# Altium schematic symbol library WL-SMCC.SchLib: 21 symbols
Pins are listed as number, name and electrical type; pins without a type are passive.

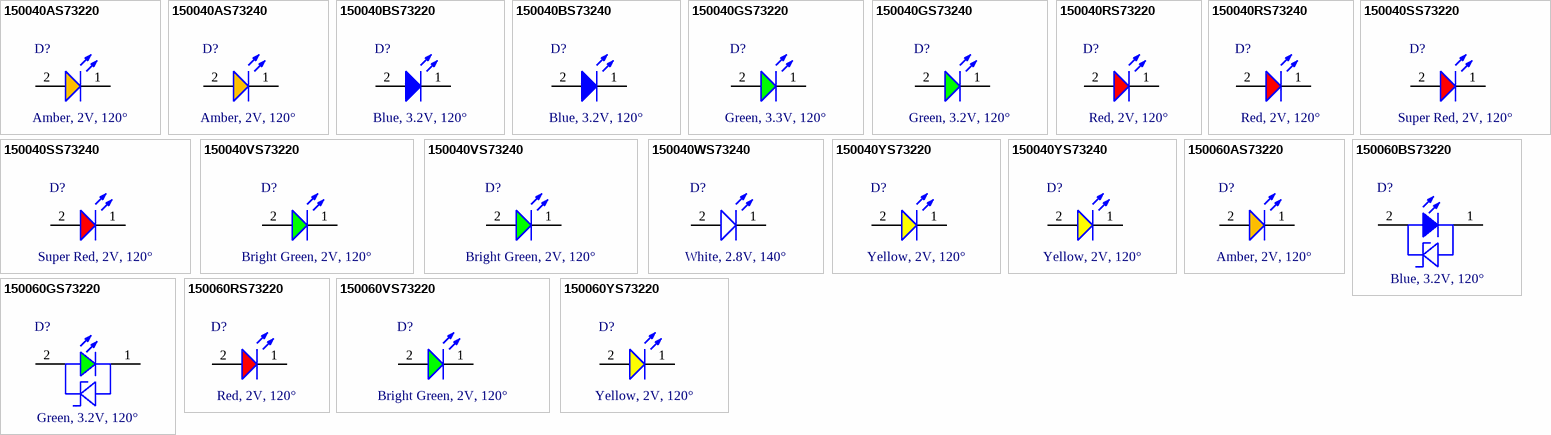
[diagram p0: symbols 150040AS73220 to 150060YS73220]

## 150040AS73220
designator D?, comment Amber, 2V, 120°
WL-SMCC Mono-color Chip LED Compact, SMT, size 0402, Amber, 2V, 120°; Manufacturer Part Number: 150040AS73220; Manufacturer: Wurth Elektronik; Case/Size Code: 0402; Chip Technology: AlInGaP; Dominant Wavelength: 605nm; Luminous Intensity: 80mcd; Peak Wavelength: 609nm; Category: Signal LEDs; Match Code: WL-SMCC; ComponentLink1Description: Website Link; ComponentLink1URL: https://www.we-online.com/redexpert/article/150040AS73220?ad; ComponentLink2Description: Datasheet Link; ComponentLink2URL: https://www.we-online.com/redexpert/spec/150040AS73220?ad; Mount: Surface Mount; Operating Temperature Max: 85°C; Operating Temperature Min: -40°C; Packaging: Tape and Reel; Length: 1mm; Width: 0.5mm; Height: 0.25mm; Emitting Color: Amber; Forward Voltage: 2V; Viewing Angle: 120°
footprint WL-SMCC_0402_150040xx73220
simulation model 0402_150040AS73220
pins: 1 K, 2 A

## 150040AS73240
designator D?, comment Amber, 2V, 120°
WL-SMCC Mono-color Chip LED Compact, SMT, size 0402, Amber, 2V, 120°; Manufacturer Part Number: 150040AS73240; Manufacturer: Wurth Elektronik; Case/Size Code: 0402; Chip Technology: AlInGaP; Dominant Wavelength: 605nm; Luminous Intensity: 110mcd; Peak Wavelength: 610nm; Category: Signal LEDs; Match Code: WL-SMCC; ComponentLink1Description: Website Link; ComponentLink1URL: https://www.we-online.com/redexpert/article/150040AS73240?ad; ComponentLink2Description: Datasheet Link; ComponentLink2URL: https://www.we-online.com/redexpert/spec/150040AS73240?ad; Mount: Surface Mount; Operating Temperature Max: 85°C; Operating Temperature Min: -40°C; Packaging: Tape and Reel; Length: 1mm; Width: 0.5mm; Height: 0.4mm; Emitting Color: Amber; Forward Voltage: 2V; Viewing Angle: 120°
footprint WL-SMCC_0402_150040xx73240
simulation model 0402_150040AS73240
pins: 1 K, 2 A

## 150040BS73220
designator D?, comment Blue, 3.2V, 120°
WL-SMCC Mono-color Chip LED Compact, SMT, size 0402, Blue, 3.2V, 120°; Manufacturer Part Number: 150040BS73220; Manufacturer: Wurth Elektronik; Case/Size Code: 0402; Chip Technology: InGaN; Dominant Wavelength: 470nm; Luminous Intensity: 140mcd; Peak Wavelength: 465nm; Category: Signal LEDs; Match Code: WL-SMCC; ComponentLink1Description: Website Link; ComponentLink1URL: https://www.we-online.com/redexpert/article/150040BS73220?ad; ComponentLink2Description: Datasheet Link; ComponentLink2URL: https://www.we-online.com/redexpert/spec/150040BS73220?ad; Mount: Surface Mount; Operating Temperature Max: 85°C; Operating Temperature Min: -40°C; Packaging: Tape and Reel; Length: 1mm; Width: 0.5mm; Height: 0.25mm; Emitting Color: Blue; Forward Voltage: 3.2V; Viewing Angle: 120°
footprint WL-SMCC_0402_150040xx73220
simulation model 0402_150040BS73220
pins: 1 K, 2 A

## 150040BS73240
designator D?, comment Blue, 3.2V, 120°
WL-SMCC Mono-color Chip LED Compact, SMT, size 0402, Blue, 3.2V, 120°; Manufacturer Part Number: 150040BS73240; Manufacturer: Wurth Elektronik; Case/Size Code: 0402; Chip Technology: InGaN; Dominant Wavelength: 470nm; Luminous Intensity: 150mcd; Peak Wavelength: 465nm; Category: Signal LEDs; Match Code: WL-SMCC; ComponentLink1Description: Website Link; ComponentLink1URL: https://www.we-online.com/redexpert/article/150040BS73240?ad; ComponentLink2Description: Datasheet Link; ComponentLink2URL: https://www.we-online.com/redexpert/spec/150040BS73240?ad; Mount: Surface Mount; Operating Temperature Max: 85°C; Operating Temperature Min: -40°C; Packaging: Tape and Reel; Length: 1mm; Width: 0.5mm; Height: 0.4mm; Emitting Color: Blue; Forward Voltage: 3.2V; Viewing Angle: 120°
footprint WL-SMCC_0402_150040xx73240
simulation model 0402_150040BS73240
pins: 1 K, 2 A

## 150040GS73220
designator D?, comment Green, 3.3V, 120°
WL-SMCC Mono-color Chip LED Compact, SMT, size 0402, Green, 3.3V, 120°; Manufacturer Part Number: 150040GS73220; Manufacturer: Wurth Elektronik; Case/Size Code: 0402; Chip Technology: InGaN; Dominant Wavelength: 525nm; Luminous Intensity: 750mcd; Peak Wavelength: 520nm; Category: Signal LEDs; Match Code: WL-SMCC; ComponentLink1Description: Website Link; ComponentLink1URL: https://www.we-online.com/redexpert/article/150040GS73220?ad; ComponentLink2Description: Datasheet Link; ComponentLink2URL: https://www.we-online.com/redexpert/spec/150040GS73220?ad; Mount: Surface Mount; Operating Temperature Max: 85°C; Operating Temperature Min: -40°C; Packaging: Tape and Reel; Length: 1mm; Width: 0.5mm; Height: 0.25mm; Emitting Color: Green; Forward Voltage: 3.3V; Viewing Angle: 120°
footprint WL-SMCC_0402_150040xx73220
simulation model 0402_150040GS73220
pins: 1 K, 2 A

## 150040GS73240
designator D?, comment Green, 3.2V, 120°
WL-SMCC Mono-color Chip LED Compact, SMT, size 0402, Green, 3.2V, 120°; Manufacturer Part Number: 150040GS73240; Manufacturer: Wurth Elektronik; Case/Size Code: 0402; Chip Technology: InGaN; Dominant Wavelength: 525nm; Luminous Intensity: 800mcd; Peak Wavelength: 515nm; Category: Signal LEDs; Match Code: WL-SMCC; ComponentLink1Description: Website Link; ComponentLink1URL: https://www.we-online.com/redexpert/article/150040GS73240?ad; ComponentLink2Description: Datasheet Link; ComponentLink2URL: https://www.we-online.com/redexpert/spec/150040GS73240?ad; Mount: Surface Mount; Operating Temperature Max: 85°C; Operating Temperature Min: -40°C; Packaging: Tape and Reel; Length: 1mm; Width: 0.5mm; Height: 0.4mm; Emitting Color: Green; Forward Voltage: 3.2V; Viewing Angle: 120°
footprint WL-SMCC_0402_150040xx73240
simulation model 0402_150040GS73240
pins: 1 K, 2 A

## 150040RS73220
designator D?, comment Red, 2V, 120°
WL-SMCC Mono-color Chip LED Compact, SMT, size 0402, Red, 2V, 120°; Manufacturer Part Number: 150040RS73220; Manufacturer: Wurth Elektronik; Case/Size Code: 0402; Chip Technology: AlInGaP; Dominant Wavelength: 624nm; Luminous Intensity: 110mcd; Peak Wavelength: 632nm; Category: Signal LEDs; Match Code: WL-SMCC; ComponentLink1Description: Website Link; ComponentLink1URL: https://www.we-online.com/redexpert/article/150040RS73220?ad; ComponentLink2Description: Datasheet Link; ComponentLink2URL: https://www.we-online.com/redexpert/spec/150040RS73220?ad; Mount: Surface Mount; Operating Temperature Max: 85°C; Operating Temperature Min: -40°C; Packaging: Tape and Reel; Length: 1mm; Width: 0.5mm; Height: 0.25mm; Emitting Color: Red; Forward Voltage: 2V; Viewing Angle: 120°
footprint WL-SMCC_0402_150040xx73220
simulation model 0402_150040RS73220
pins: 1 K, 2 A

## 150040RS73240
designator D?, comment Red, 2V, 120°
WL-SMCC Mono-color Chip LED Compact, SMT, size 0402, Red, 2V, 120°; Manufacturer Part Number: 150040RS73240; Manufacturer: Wurth Elektronik; Case/Size Code: 0402; Chip Technology: AlInGaP; Dominant Wavelength: 625nm; Luminous Intensity: 100mcd; Peak Wavelength: 630nm; Category: Signal LEDs; Match Code: WL-SMCC; ComponentLink1Description: Website Link; ComponentLink1URL: https://www.we-online.com/redexpert/article/150040RS73240?ad; ComponentLink2Description: Datasheet Link; ComponentLink2URL: https://www.we-online.com/redexpert/spec/150040RS73240?ad; Mount: Surface Mount; Operating Temperature Max: 85°C; Operating Temperature Min: -40°C; Packaging: Tape and Reel; Length: 1mm; Width: 0.5mm; Height: 0.4mm; Emitting Color: Red; Forward Voltage: 2V; Viewing Angle: 120°
footprint WL-SMCC_0402_150040xx73240
simulation model 0402_150040RS73240
pins: 1 K, 2 A

## 150040SS73220
designator D?, comment Super Red, 2V, 120°
WL-SMCC Mono-color Chip LED Compact, SMT, size 0402, Super Red, 2V, 120°; Manufacturer Part Number: 150040SS73220; Manufacturer: Wurth Elektronik; Case/Size Code: 0402; Chip Technology: AlInGaP; Dominant Wavelength: 630nm; Luminous Intensity: 90mcd; Peak Wavelength: 645nm; Category: Signal LEDs; Match Code: WL-SMCC; ComponentLink1Description: Website Link; ComponentLink1URL: https://www.we-online.com/redexpert/article/150040SS73220?ad; ComponentLink2Description: Datasheet Link; ComponentLink2URL: https://www.we-online.com/redexpert/spec/150040SS73220?ad; Mount: Surface Mount; Operating Temperature Max: 85°C; Operating Temperature Min: -40°C; Packaging: Tape and Reel; Length: 1mm; Width: 0.5mm; Height: 0.25mm; Emitting Color: Super Red; Forward Voltage: 2V; Viewing Angle: 120°
footprint WL-SMCC_0402_150040xx73220
simulation model 0402_150040SS73220
pins: 1 K, 2 A

## 150040SS73240
designator D?, comment Super Red, 2V, 120°
WL-SMCC Mono-color Chip LED Compact, SMT, size 0402, Super Red, 2V, 120°; Manufacturer Part Number: 150040SS73240; Manufacturer: Wurth Elektronik; Case/Size Code: 0402; Chip Technology: AlInGaP; Dominant Wavelength: 630nm; Luminous Intensity: 75mcd; Peak Wavelength: 645nm; Category: Signal LEDs; Match Code: WL-SMCC; ComponentLink1Description: Website Link; ComponentLink1URL: https://www.we-online.com/redexpert/article/150040SS73240?ad; ComponentLink2Description: Datasheet Link; ComponentLink2URL: https://www.we-online.com/redexpert/spec/150040SS73240?ad; Mount: Surface Mount; Operating Temperature Max: 85°C; Operating Temperature Min: -40°C; Packaging: Tape and Reel; Length: 1mm; Width: 0.5mm; Height: 0.4mm; Emitting Color: Super Red; Forward Voltage: 2V; Viewing Angle: 120°
footprint WL-SMCC_0402_150040xx73240
simulation model 0402_150040SS73240
pins: 1 K, 2 A

## 150040VS73220
designator D?, comment Bright Green, 2V, 120°
WL-SMCC Mono-color Chip LED Compact, SMT, size 0402, Bright Green, 2V, 120°; Manufacturer Part Number: 150040VS73220; Manufacturer: Wurth Elektronik; Case/Size Code: 0402; Chip Technology: AlInGaP; Dominant Wavelength: 573nm; Luminous Intensity: 60mcd; Peak Wavelength: 575nm; Category: Signal LEDs; Match Code: WL-SMCC; ComponentLink1Description: Website Link; ComponentLink1URL: https://www.we-online.com/redexpert/article/150040VS73220?ad; ComponentLink2Description: Datasheet Link; ComponentLink2URL: https://www.we-online.com/redexpert/spec/150040VS73220?ad; Mount: Surface Mount; Operating Temperature Max: 85°C; Operating Temperature Min: -40°C; Packaging: Tape and Reel; Length: 1mm; Width: 0.5mm; Height: 0.25mm; Emitting Color: Bright Green; Forward Voltage: 2V; Viewing Angle: 120°
footprint WL-SMCC_0402_150040xx73220
simulation model 0402_150040VS73220
pins: 1 K, 2 A

## 150040VS73240
designator D?, comment Bright Green, 2V, 120°
WL-SMCC Mono-color Chip LED Compact, SMT, size 0402, Bright Green, 2V, 120°; Manufacturer Part Number: 150040VS73240; Manufacturer: Wurth Elektronik; Case/Size Code: 0402; Chip Technology: AlInGaP; Dominant Wavelength: 570nm; Luminous Intensity: 50mcd; Peak Wavelength: 572nm; Category: Signal LEDs; Match Code: WL-SMCC; ComponentLink1Description: Website Link; ComponentLink1URL: https://www.we-online.com/redexpert/article/150040VS73240?ad; ComponentLink2Description: Datasheet Link; ComponentLink2URL: https://www.we-online.com/redexpert/spec/150040VS73240?ad; Mount: Surface Mount; Operating Temperature Max: 85°C; Operating Temperature Min: -40°C; Packaging: Tape and Reel; Length: 1mm; Width: 0.5mm; Height: 0.4mm; Emitting Color: Bright Green; Forward Voltage: 2V; Viewing Angle: 120°
footprint WL-SMCC_0402_150040xx73240
simulation model 0402_150040VS73240
pins: 1 K, 2 A

## 150040WS73240
designator D?, comment White, 2.8V, 140°
WL-SMCC Mono-color Chip LED Compact, SMT, size 0402, White, 2.8V, 140°; Manufacturer Part Number: 150040WS73240; Manufacturer: Wurth Elektronik; Case/Size Code: 0402; Chip Technology: InGaN; Luminous Intensity: 300mcd; Category: Signal LEDs; Match Code: WL-SMCC; ComponentLink1Description: Website Link; ComponentLink1URL: https://www.we-online.com/redexpert/article/150040WS73240?ad; ComponentLink2Description: Datasheet Link; ComponentLink2URL: https://www.we-online.com/redexpert/spec/150040WS73240?ad; Mount: Surface Mount; Operating Temperature Max: 85°C; Operating Temperature Min: -40°C; Packaging: Tape and Reel; Length: 1mm; Width: 0.5mm; Height: 0.43mm; Emitting Color: White; Forward Voltage: 2.8V; Viewing Angle: 140°
footprint WL-SMCC_0402_150040xx73240_WS
pins: 1 K, 2 A

## 150040YS73220
designator D?, comment Yellow, 2V, 120°
WL-SMCC Mono-color Chip LED Compact, SMT, size 0402, Yellow, 2V, 120°; Manufacturer Part Number: 150040YS73220; Manufacturer: Wurth Elektronik; Case/Size Code: 0402; Chip Technology: AlInGaP; Dominant Wavelength: 589nm; Luminous Intensity: 70mcd; Peak Wavelength: 591nm; Category: Signal LEDs; Match Code: WL-SMCC; ComponentLink1Description: Website Link; ComponentLink1URL: https://www.we-online.com/redexpert/article/150040YS73220?ad; ComponentLink2Description: Datasheet Link; ComponentLink2URL: https://www.we-online.com/redexpert/spec/150040YS73220?ad; Mount: Surface Mount; Operating Temperature Max: 85°C; Operating Temperature Min: -40°C; Packaging: Tape and Reel; Length: 1mm; Width: 0.5mm; Height: 0.25mm; Emitting Color: Yellow; Forward Voltage: 2V; Viewing Angle: 120°
footprint WL-SMCC_0402_150040xx73220
simulation model 0402_150040YS73220
pins: 1 K, 2 A

## 150040YS73240
designator D?, comment Yellow, 2V, 120°
WL-SMCC Mono-color Chip LED Compact, SMT, size 0402, Yellow, 2V, 120°; Manufacturer Part Number: 150040YS73240; Manufacturer: Wurth Elektronik; Case/Size Code: 0402; Chip Technology: AlInGaP; Dominant Wavelength: 590nm; Luminous Intensity: 70mcd; Peak Wavelength: 595nm; Category: Signal LEDs; Match Code: WL-SMCC; ComponentLink1Description: Website Link; ComponentLink1URL: https://www.we-online.com/redexpert/article/150040YS73240?ad; ComponentLink2Description: Datasheet Link; ComponentLink2URL: https://www.we-online.com/redexpert/spec/150040YS73240?ad; Mount: Surface Mount; Operating Temperature Max: 85°C; Operating Temperature Min: -40°C; Packaging: Tape and Reel; Length: 1mm; Width: 0.5mm; Height: 0.4mm; Emitting Color: Yellow; Forward Voltage: 2V; Viewing Angle: 120°
footprint WL-SMCC_0402_150040xx73240
simulation model 0402_150040YS73240
pins: 1 K, 2 A

## 150060AS73220
designator D?, comment Amber, 2V, 120°
WL-SMCC Mono-color Chip LED Compact, SMT, size 0603, Amber, 2V, 120°; Manufacturer Part Number: 150060AS73220; Manufacturer: Wurth Elektronik; Case/Size Code: 0603; Chip Technology: AlInGaP; Dominant Wavelength: 605nm; Luminous Intensity: 80mcd; Peak Wavelength: 609nm; Category: Signal LEDs; Match Code: WL-SMCC; ComponentLink1Description: Website Link; ComponentLink1URL: https://www.we-online.com/redexpert/article/150060AS73220?ad; ComponentLink2Description: Datasheet Link; ComponentLink2URL: https://www.we-online.com/redexpert/spec/150060AS73220?ad; Mount: Surface Mount; Operating Temperature Max: 85°C; Operating Temperature Min: -40°C; Packaging: Tape and Reel; Length: 1.6mm; Width: 0.8mm; Height: 0.2mm; Emitting Color: Amber; Forward Voltage: 2V; Viewing Angle: 120°
footprint WL-SMCC_0603_150060xx73220
simulation model 0603_150060AS73220
pins: 1 K, 2 A

## 150060BS73220
designator D?, comment Blue, 3.2V, 120°
WL-SMCC Mono-color Chip LED Compact, SMT, size 0603, Blue, 3.2V, 120°; Manufacturer Part Number: 150060BS73220; Manufacturer: Wurth Elektronik; Case/Size Code: 0603; Chip Technology: InGaN; Dominant Wavelength: 470nm; Luminous Intensity: 170mcd; Peak Wavelength: 465nm; Category: Signal LEDs; Match Code: WL-SMCC; ComponentLink1Description: Website Link; ComponentLink1URL: https://www.we-online.com/redexpert/article/150060BS73220?ad; ComponentLink2Description: Datasheet Link; ComponentLink2URL: https://www.we-online.com/redexpert/spec/150060BS73220?ad; Mount: Surface Mount; Operating Temperature Max: 85°C; Operating Temperature Min: -40°C; Packaging: Tape and Reel; Length: 1.6mm; Width: 0.8mm; Height: 0.2mm; Emitting Color: Blue; Forward Voltage: 3.2V; Viewing Angle: 120°
footprint WL-SMCC_0603_150060xx73220_GS_BS
simulation model 0603_150060BS73220
pins: 1 K, 2 A

## 150060GS73220
designator D?, comment Green, 3.2V, 120°
WL-SMCC Mono-color Chip LED Compact, SMT, size 0603, Green, 3.2V, 120°; Manufacturer Part Number: 150060GS73220; Manufacturer: Wurth Elektronik; Case/Size Code: 0603; Chip Technology: InGaN; Dominant Wavelength: 525nm; Luminous Intensity: 700mcd; Peak Wavelength: 520nm; Category: Signal LEDs; Match Code: WL-SMCC; ComponentLink1Description: Website Link; ComponentLink1URL: https://www.we-online.com/redexpert/article/150060GS73220?ad; ComponentLink2Description: Datasheet Link; ComponentLink2URL: https://www.we-online.com/redexpert/spec/150060GS73220?ad; Mount: Surface Mount; Operating Temperature Max: 85°C; Operating Temperature Min: -40°C; Packaging: Tape and Reel; Length: 1.6mm; Width: 0.8mm; Height: 0.2mm; Emitting Color: Green; Forward Voltage: 3.2V; Viewing Angle: 120°
footprint WL-SMCC_0603_150060xx73220_GS_BS
simulation model 0603_150060GS73220
pins: 1 K, 2 A

## 150060RS73220
designator D?, comment Red, 2V, 120°
WL-SMCC Mono-color Chip LED Compact, SMT, size 0603, Red, 2V, 120°; Manufacturer Part Number: 150060RS73220; Manufacturer: Wurth Elektronik; Case/Size Code: 0603; Chip Technology: AlInGaP; Dominant Wavelength: 624nm; Luminous Intensity: 90mcd; Peak Wavelength: 632nm; Category: Signal LEDs; Match Code: WL-SMCC; ComponentLink1Description: Website Link; ComponentLink1URL: https://www.we-online.com/redexpert/article/150060RS73220?ad; ComponentLink2Description: Datasheet Link; ComponentLink2URL: https://www.we-online.com/redexpert/spec/150060RS73220?ad; Mount: Surface Mount; Operating Temperature Max: 85°C; Operating Temperature Min: -40°C; Packaging: Tape and Reel; Length: 1.6mm; Width: 0.8mm; Height: 0.2mm; Emitting Color: Red; Forward Voltage: 2V; Viewing Angle: 120°
footprint WL-SMCC_0603_150060xx73220
simulation model 0603_150060RS73220
pins: 1 K, 2 A

## 150060VS73220
designator D?, comment Bright Green, 2V, 120°
WL-SMCC Mono-color Chip LED Compact, SMT, size 0603, Bright Green, 2V, 120°; Manufacturer Part Number: 150060VS73220; Manufacturer: Wurth Elektronik; Case/Size Code: 0603; Chip Technology: AlInGaP; Dominant Wavelength: 573nm; Luminous Intensity: 60mcd; Peak Wavelength: 575nm; Category: Signal LEDs; Match Code: WL-SMCC; ComponentLink1Description: Website Link; ComponentLink1URL: https://www.we-online.com/redexpert/article/150060VS73220?ad; ComponentLink2Description: Datasheet Link; ComponentLink2URL: https://www.we-online.com/redexpert/spec/150060VS73220?ad; Mount: Surface Mount; Operating Temperature Max: 85°C; Operating Temperature Min: -40°C; Packaging: Tape and Reel; Length: 1.6mm; Width: 0.8mm; Height: 0.2mm; Emitting Color: Bright Green; Forward Voltage: 2V; Viewing Angle: 120°
footprint WL-SMCC_0603_150060xx73220
simulation model 0603_150060VS73220
pins: 1 K, 2 A

## 150060YS73220
designator D?, comment Yellow, 2V, 120°
WL-SMCC Mono-color Chip LED Compact, SMT, size 0603, Yellow, 2V, 120°; Manufacturer Part Number: 150060YS73220; Manufacturer: Wurth Elektronik; Case/Size Code: 0603; Chip Technology: AlInGaP; Dominant Wavelength: 589nm; Luminous Intensity: 100mcd; Peak Wavelength: 591nm; Category: Signal LEDs; Match Code: WL-SMCC; ComponentLink1Description: Website Link; ComponentLink1URL: https://www.we-online.com/redexpert/article/150060YS73220?ad; ComponentLink2Description: Datasheet Link; ComponentLink2URL: https://www.we-online.com/redexpert/spec/150060YS73220?ad; Mount: Surface Mount; Operating Temperature Max: 85°C; Operating Temperature Min: -40°C; Packaging: Tape and Reel; Length: 1.6mm; Width: 0.8mm; Height: 0.2mm; Emitting Color: Yellow; Forward Voltage: 2V; Viewing Angle: 120°
footprint WL-SMCC_0603_150060xx73220
simulation model 0603_150060YS73220
pins: 1 K, 2 A